# Altium footprint library GeneralConnectors.PcbLib: 17 footprints (part 2 of 2)
Each footprint in its own frame and in the unit in brackets; x right, y up, seen from the top. Pads: shape width x height; smd on the part's side, far side on the other; paste and mask are expansions set on the pad; w line width, h text height; cw(c..) or ccw(c..) is an arc to the next point about the centre after c.
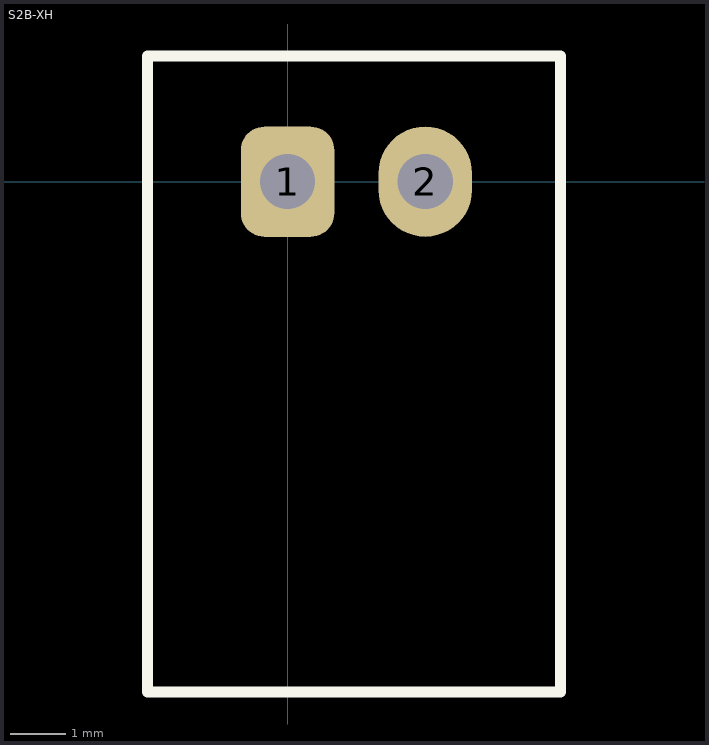
[diagram p1: the footprint, top view; thin cyan lines are the x and y axes]

## S2B-XH [mm] "Horizontal 2-Pin JST"
pads (2):
  rrect50% 1.7x2 hole 1: 1(0,0)
  oval 1.7x2 hole 1: 2(2.5,0)
Top Overlay:
  lines w0.2: -2.54,-9.271 -2.54,2.286 4.953,2.286 4.953,-9.271 -2.54,-9.271
3D body "JST_XH_S2B-XH-A_1x02_P2.50mm_Horizontal.step": height 6.1, standoff -3.4, extent -2.45,-9.2 4.95,2.3